# EAGLE library part THAT2181C (library integrated circuits)
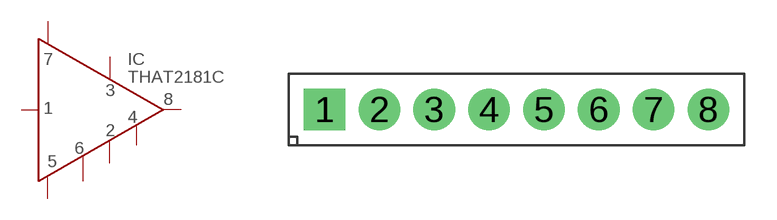
[diagram p26: symbol with the pads of SIL8; footprint SIL8]

Designator prefix IC

## THAT2181C  [SIL8]
1  P$1
2  P$2
3  P$3
4  P$4
5  P$5
6  P$6
7  P$7
8  P$8

## Footprint SIL8 (pad centres in mm)
drill 1 pad 1.93 square: 1 -8.89,0
drill 1 pad 1.93: 2 -6.35,0; 3 -3.81,0; 4 -1.27,0; 5 1.27,0; 6 3.81,0; 7 6.35,0; 8 8.89,0